# EAGLE library part XC3S400TQ144 (library xilinx_spartan3_virtex4_and_5)
Xilinx FPGA
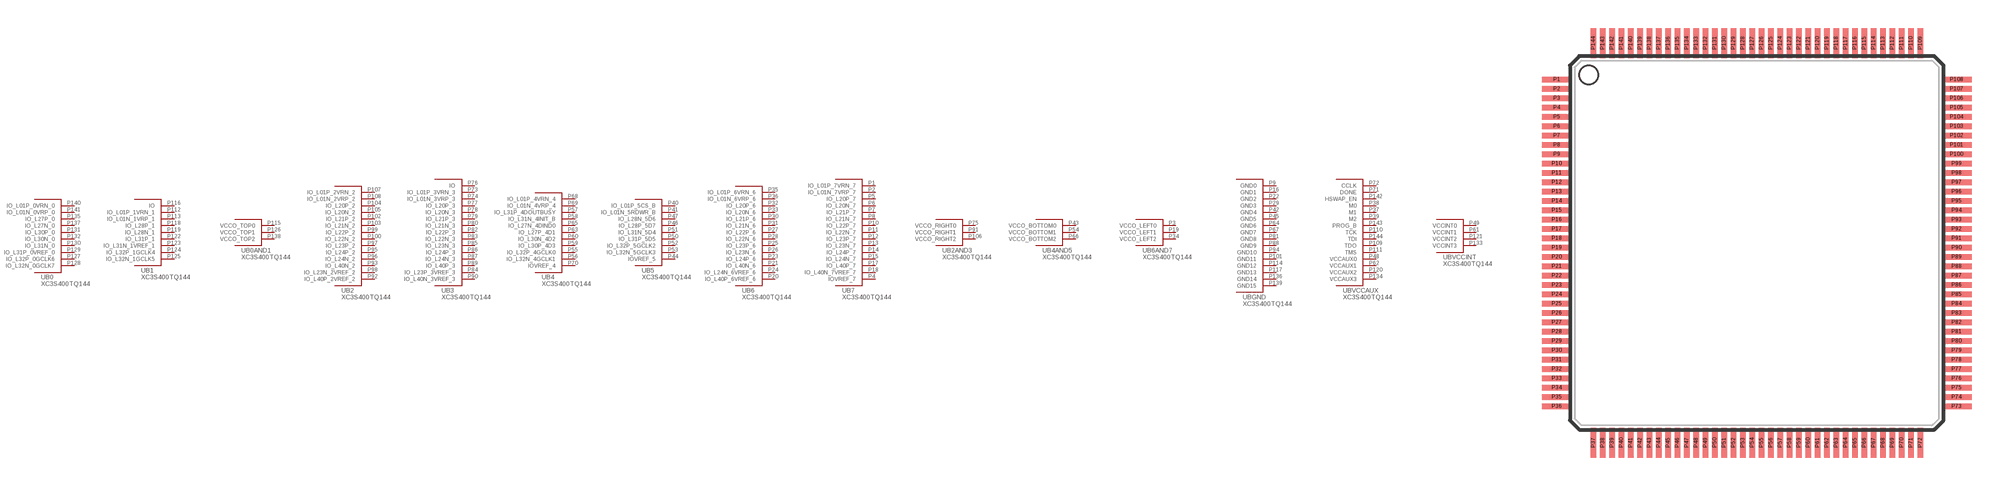
[diagram p5: symbol with the pads of TQ144; footprint TQ144]

Designator prefix U; gates B0=XC3S400TQ144_0 B1=XC3S400TQ144_1 B0AND1=XC3S400TQ144_0AND1 B2=XC3S400TQ144_2 B3=XC3S400TQ144_3 B4=XC3S400TQ144_4 B5=XC3S400TQ144_5 B6=XC3S400TQ144_6 B7=XC3S400TQ144_7 B2AND3=XC3S400TQ144_2AND3 B4AND5=XC3S400TQ144_4AND5 B6AND7=XC3S400TQ144_6AND7 BGND=XC3S400TQ144_GND BVCCAUX=XC3S400TQ144_VCCAUX BVCCINT=XC3S400TQ144_VCCINT

## XC3S400TQ144  [TQ144]
P1  B7:IO_L01P_7VRN_7
P2  B7:IO_L01N_7VRP_7
P3  B6AND7:VCCO_LEFT0  pas
P4  B7:IOVREF_7
P5  B7:IO_L20P_7
P6  B7:IO_L20N_7
P7  B7:IO_L21P_7
P8  B7:IO_L21N_7
P9  BGND:GND0  pas
P10  B7:IO_L22P_7
P11  B7:IO_L22N_7
P12  B7:IO_L23P_7
P13  B7:IO_L23N_7
P14  B7:IO_L24P_7
P15  B7:IO_L24N_7
P16  BGND:GND1  pas
P17  B7:IO_L40P_7
P18  B7:IO_L40N_7VREF_7
P19  B6AND7:VCCO_LEFT1  pas
P20  B6:IO_L40P_6VREF_6
P21  B6:IO_L40N_6
P22  BGND:GND2  pas
P23  B6:IO_L24P_6
P24  B6:IO_L24N_6VREF_6
P25  B6:IO_L23P_6
P26  B6:IO_L23N_6
P27  B6:IO_L22P_6
P28  B6:IO_L22N_6
P29  BGND:GND3  pas
P30  B6:IO_L21P_6
P31  B6:IO_L21N_6
P32  B6:IO_L20P_6
P33  B6:IO_L20N_6
P34  B6AND7:VCCO_LEFT2  pas
P35  B6:IO_L01P_6VRN_6
P36  B6:IO_L01N_6VRP_6
P37  BVCCAUX:M1
P38  BVCCAUX:M0
P39  BVCCAUX:M2
P40  B5:IO_L01P_5CS_B
P41  B5:IO_L01N_5RDWR_B
P42  BGND:GND4  pas
P43  B4AND5:VCCO_BOTTOM0  pas
P44  B5:IOVREF_5
P45  BGND:GND5  pas
P46  B5:IO_L28P_5D7
P47  B5:IO_L28N_5D6
P48  BVCCAUX:VCCAUX0  pas
P49  BVCCINT:VCCINT0  pas
P50  B5:IO_L31P_5D5
P51  B5:IO_L31N_5D4
P52  B5:IO_L32P_5GCLK2
P53  B5:IO_L32N_5GCLK3
P54  B4AND5:VCCO_BOTTOM1  pas
P55  B4:IO_L32P_4GCLK0
P56  B4:IO_L32N_4GCLK1
P57  B4:IO_L31P_4DOUTBUSY
P58  B4:IO_L31N_4INIT_B
P59  B4:IO_L30P_4D3
P60  B4:IO_L30N_4D2
P61  BVCCINT:VCCINT1  pas
P62  BVCCAUX:VCCAUX1  pas
P63  B4:IO_L27P_4D1
P64  BGND:GND6  pas
P65  B4:IO_L27N_4DIND0
P66  B4AND5:VCCO_BOTTOM2  pas
P67  BGND:GND7  pas
P68  B4:IO_L01P_4VRN_4
P69  B4:IO_L01N_4VRP_4
P70  B4:IOVREF_4
P71  BVCCAUX:DONE
P72  BVCCAUX:CCLK
P73  B3:IO_L01P_3VRN_3
P74  B3:IO_L01N_3VRP_3
P75  B2AND3:VCCO_RIGHT0  pas
P76  B3:IO
P77  B3:IO_L20P_3
P78  B3:IO_L20N_3
P79  B3:IO_L21P_3
P80  B3:IO_L21N_3
P81  BGND:GND8  pas
P82  B3:IO_L22P_3
P83  B3:IO_L22N_3
P84  B3:IO_L23P_3VREF_3
P85  B3:IO_L23N_3
P86  B3:IO_L24P_3
P87  B3:IO_L24N_3
P88  BGND:GND9  pas
P89  B3:IO_L40P_3
P90  B3:IO_L40N_3VREF_3
P91  B2AND3:VCCO_RIGHT1  pas
P92  B2:IO_L40P_2VREF_2
P93  B2:IO_L40N_2
P94  BGND:GND10  pas
P95  B2:IO_L24P_2
P96  B2:IO_L24N_2
P97  B2:IO_L23P_2
P98  B2:IO_L23N_2VREF_2
P99  B2:IO_L22P_2
P100  B2:IO_L22N_2
P101  BGND:GND11  pas
P102  B2:IO_L21P_2
P103  B2:IO_L21N_2
P104  B2:IO_L20P_2
P105  B2:IO_L20N_2
P106  B2AND3:VCCO_RIGHT2  pas
P107  B2:IO_L01P_2VRN_2
P108  B2:IO_L01N_2VRP_2
P109  BVCCAUX:TDO
P110  BVCCAUX:TCK
P111  BVCCAUX:TMS
P112  B1:IO_L01P_1VRN_1
P113  B1:IO_L01N_1VRP_1
P114  BGND:GND12  pas
P115  B0AND1:VCCO_TOP0  pas
P116  B1:IO
P117  BGND:GND13  pas
P118  B1:IO_L28P_1
P119  B1:IO_L28N_1
P120  BVCCAUX:VCCAUX2  pas
P121  BVCCINT:VCCINT2  pas
P122  B1:IO_L31P_1
P123  B1:IO_L31N_1VREF_1
P124  B1:IO_L32P_1GCLK4
P125  B1:IO_L32N_1GCLK5
P126  B0AND1:VCCO_TOP1  pas
P127  B0:IO_L32P_0GCLK6
P128  B0:IO_L32N_0GCLK7
P129  B0:IO_L31P_0VREF_0
P130  B0:IO_L31N_0
P131  B0:IO_L30P_0
P132  B0:IO_L30N_0
P133  BVCCINT:VCCINT3  pas
P134  BVCCAUX:VCCAUX3  pas
P135  B0:IO_L27P_0
P136  BGND:GND14  pas
P137  B0:IO_L27N_0
P138  B0AND1:VCCO_TOP2  pas
P139  BGND:GND15  pas
P140  B0:IO_L01P_0VRN_0
P141  B0:IO_L01N_0VRP_0
P142  BVCCAUX:HSWAP_EN
P143  BVCCAUX:PROG_B
P144  BVCCAUX:TDI

## Footprint TQ144 (pad centres in mm)
smd 1.6 x 0.3: P1 -10.7,8.75; P2 -10.7,8.25; P3 -10.7,7.75; P4 -10.7,7.25; P5 -10.7,6.75; P6 -10.7,6.25; P7 -10.7,5.75; P8 -10.7,5.25; P9 -10.7,4.75; P10 -10.7,4.25; P11 -10.7,3.75; P12 -10.7,3.25; P13 -10.7,2.75; P14 -10.7,2.25; P15 -10.7,1.75; P16 -10.7,1.25; P17 -10.7,0.75; P18 -10.7,0.25; P19 -10.7,-0.25; P20 -10.7,-0.75; P21 -10.7,-1.25; P22 -10.7,-1.75; P23 -10.7,-2.25; P24 -10.7,-2.75; P25 -10.7,-3.25; P26 -10.7,-3.75; P27 -10.7,-4.25; P28 -10.7,-4.75; P29 -10.7,-5.25; P30 -10.7,-5.75; P31 -10.7,-6.25; P32 -10.7,-6.75; P33 -10.7,-7.25; P34 -10.7,-7.75; P35 -10.7,-8.25; P36 -10.7,-8.75; P73 10.7,-8.75; P74 10.7,-8.25; P75 10.7,-7.75; P76 10.7,-7.25; P77 10.7,-6.75; P78 10.7,-6.25; P79 10.7,-5.75; P80 10.7,-5.25; P81 10.7,-4.75; P82 10.7,-4.25; P83 10.7,-3.75; P84 10.7,-3.25; P85 10.7,-2.75; P86 10.7,-2.25; P87 10.7,-1.75; P88 10.7,-1.25; P89 10.7,-0.75; P90 10.7,-0.25; P91 10.7,0.25; P92 10.7,0.75; P93 10.7,1.25; P94 10.7,1.75; P95 10.7,2.25; P96 10.7,2.75; P97 10.7,3.25; P98 10.7,3.75; P99 10.7,4.25; P100 10.7,4.75; P101 10.7,5.25; P102 10.7,5.75; P103 10.7,6.25; P104 10.7,6.75; P105 10.7,7.25; P106 10.7,7.75; P107 10.7,8.25; P108 10.7,8.75
smd 0.3 x 1.6: P37 -8.75,-10.7; P38 -8.25,-10.7; P39 -7.75,-10.7; P40 -7.25,-10.7; P41 -6.75,-10.7; P42 -6.25,-10.7; P43 -5.75,-10.7; P44 -5.25,-10.7; P45 -4.75,-10.7; P46 -4.25,-10.7; P47 -3.75,-10.7; P48 -3.25,-10.7; P49 -2.75,-10.7; P50 -2.25,-10.7; P51 -1.75,-10.7; P52 -1.25,-10.7; P53 -0.75,-10.7; P54 -0.25,-10.7; P55 0.25,-10.7; P56 0.75,-10.7; P57 1.25,-10.7; P58 1.75,-10.7; P59 2.25,-10.7; P60 2.75,-10.7; P61 3.25,-10.7; P62 3.75,-10.7; P63 4.25,-10.7; P64 4.75,-10.7; P65 5.25,-10.7; P66 5.75,-10.7; P67 6.25,-10.7; P68 6.75,-10.7; P69 7.25,-10.7; P70 7.75,-10.7; P71 8.25,-10.7; P72 8.75,-10.7; P109 8.75,10.7; P110 8.25,10.7; P111 7.75,10.7; P112 7.25,10.7; P113 6.75,10.7; P114 6.25,10.7; P115 5.75,10.7; P116 5.25,10.7; P117 4.75,10.7; P118 4.25,10.7; P119 3.75,10.7; P120 3.25,10.7; P121 2.75,10.7; P122 2.25,10.7; P123 1.75,10.7; P124 1.25,10.7; P125 0.75,10.7; P126 0.25,10.7; P127 -0.25,10.7; P128 -0.75,10.7; P129 -1.25,10.7; P130 -1.75,10.7; P131 -2.25,10.7; P132 -2.75,10.7; P133 -3.25,10.7; P134 -3.75,10.7; P135 -4.25,10.7; P136 -4.75,10.7; P137 -5.25,10.7; P138 -5.75,10.7; P139 -6.25,10.7; P140 -6.75,10.7; P141 -7.25,10.7; P142 -7.75,10.7; P143 -8.25,10.7; P144 -8.75,10.7